# EAGLE library part ESP32-WROVER-B (library 3D_MIG_Controller)
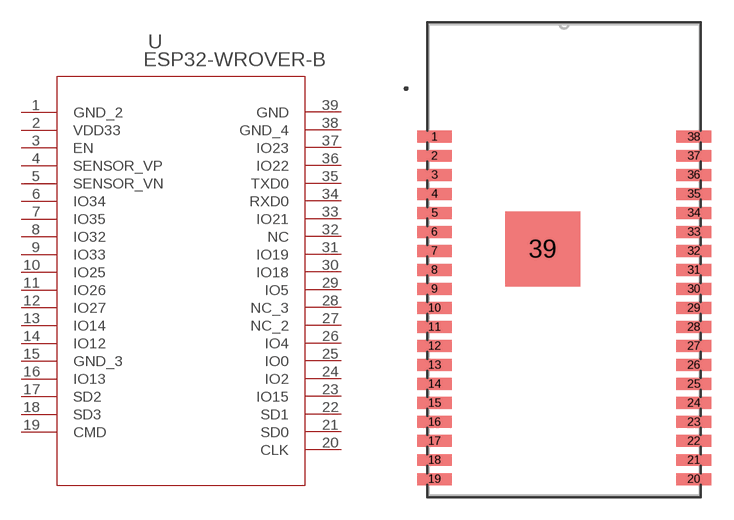
[diagram p46: symbol with the pads of ESP32-WROVER-B_EXP; footprint ESP32-WROVER-B_EXP]

Designator prefix U

## ESP32-WROVER-B (BUILT_BY: EMA_Colton; COPYRIGHT: Copyright (C) 2018 Accelerated Designs. All rights reserved; DATASHEET: https://datasheet.octopart.com/ESP32-WROVER-B-%28M213DH6464PC3Q0%29-Espressif-Systems-datasheet-137461429.pdf; PARTNO: ESP32-WROVER-B; SOURCELIBRARY: Espressif_Systems_2020-02-05; VENDOR: Espressif Systems)  [ESP32-WROVER-B_EXP]
1  GND_2  pas
2  VDD33  pas
3  EN  pas
4  SENSOR_VP  pas
5  SENSOR_VN  pas
6  IO34  pas
7  IO35  pas
8  IO32  pas
9  IO33  pas
10  IO25  pas
11  IO26  pas
12  IO27  pas
13  IO14  pas
14  IO12  pas
15  GND_3  pas
16  IO13  pas
17  SD2  pas
18  SD3  pas
19  CMD  pas
20  CLK  pas
21  SD0  pas
22  SD1  pas
23  IO15  pas
24  IO2  pas
25  IO0  pas
26  IO4  pas
27  NC_2  pas
28  NC_3  pas
29  IO5  pas
30  IO18  pas
31  IO19  pas
32  NC  pas
33  IO21  pas
34  RXD0  pas
35  TXD0  pas
36  IO22  pas
37  IO23  pas
38  GND_4  pas
39  GND  pas

## Footprint ESP32-WROVER-B_EXP (pad centres in mm)
smd 2.305 x 0.798: 1 -8.652,8.21; 2 -8.652,6.94; 3 -8.652,5.67; 4 -8.652,4.4; 5 -8.652,3.13; 6 -8.652,1.86; 7 -8.652,0.59; 8 -8.652,-0.68; 9 -8.652,-1.95; 10 -8.652,-3.22; 11 -8.652,-4.49; 12 -8.652,-5.76; 13 -8.652,-7.03; 14 -8.652,-8.3; 15 -8.652,-9.57; 16 -8.652,-10.84; 17 -8.652,-12.11; 18 -8.652,-13.38; 19 -8.652,-14.65; 20 8.652,-14.65; 21 8.652,-13.38; 22 8.652,-12.11; 23 8.652,-10.84; 24 8.652,-9.57; 25 8.652,-8.3; 26 8.652,-7.03; 27 8.652,-5.76; 28 8.652,-4.49; 29 8.652,-3.22; 30 8.652,-1.95; 31 8.652,-0.68; 32 8.652,0.59; 33 8.652,1.86; 34 8.652,3.13; 35 8.652,4.4; 36 8.652,5.67; 37 8.652,6.94; 38 8.652,8.21
smd 5 x 5: 39 -1.43,0.71